# Altium schematic symbol library CTC.SCHLIB: 16 symbols
Pins are listed as number, name and electrical type; pins without a type are passive.

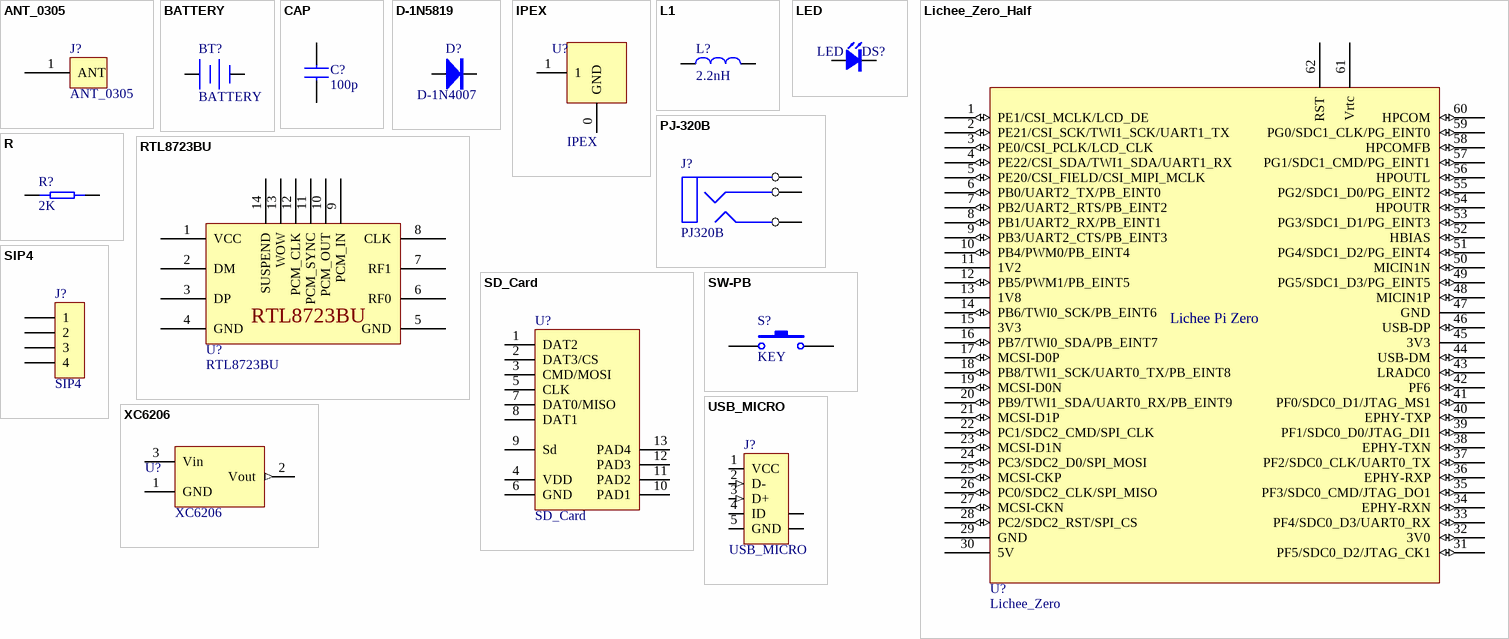
[diagram p0: symbols ANT_0305 to XC6206]

## ANT_0305
designator J?
footprint ANT_0305
pins: 1 ANT

## BATTERY
designator BT?
Multicell Battery; Published: 24-Mar-1999; LatestRevisionDate: 17-Jul-2002; LatestRevisionNote: Re-released for DXP Platform.; PackageReference: BAT-2; Publisher: Altium Limited
footprint BAT-2 (Multicell Battery; 2 Leads)
footprint MS621FE
footprint SIP2-2.54
pins: 1 +, 2 -

## CAP
designator C?, comment 100p
SMD-CAP
footprint 0603C
footprint 0805C
footprint 1206C
footprint C_CCB
footprint 0402C
pins: 1, 2

## D-1N5819
designator D?, comment D-1N4007
Diode
footprint DO-41
footprint DO-35
footprint DO-214
footprint SOD-323
pins: A 1, K 2

## IPEX
designator U?
footprint IPEX
footprint SLDA52
pins: 0 GND, 1

## L1
designator L?, comment 2.2nH
电感
footprint SLF10145
footprint SLF12565
footprint CD32
footprint CD43
footprint NR3015
footprint 0805R
footprint 0603R
pins: 1, 2

## LED
designator DS?
footprint 0805D
footprint LED-5
footprint 0603D
footprint LED0603_R
pins: A 1, K 2

## Lichee_Zero_Half
designator U?, comment Lichee_Zero
footprint Lichee_Zero_Half
pins: 1 PE1/CSI_MCLK/LCD_DE (io), 2 PE21/CSI_SCK/TWI1_SCK/UART1_TX (io), 3 PE0/CSI_PCLK/LCD_CLK (io), 4 PE22/CSI_SDA/TWI1_SDA/UART1_RX (io), 5 PE20/CSI_FIELD/CSI_MIPI_MCLK (io), 6 PB0/UART2_TX/PB_EINT0 (io), 7 PB2/UART2_RTS/PB_EINT2 (io), 8 PB1/UART2_RX/PB_EINT1 (io), 9 PB3/UART2_CTS/PB_EINT3 (io), 10 PB4/PWM0/PB_EINT4 (io), 11 1V2 (power), 12 PB5/PWM1/PB_EINT5 (io), 13 1V8 (power), 14 PB6/TWI0_SCK/PB_EINT6 (io), 15 3V3 (power), 16 PB7/TWI0_SDA/PB_EINT7 (io), 17 MCSI-D0P (io), 18 PB8/TWI1_SCK/UART0_TX/PB_EINT8 (io), 19 MCSI-D0N (io), 20 PB9/TWI1_SDA/UART0_RX/PB_EINT9 (io), 21 MCSI-D1P (io), 22 PC1/SDC2_CMD/SPI_CLK (io), 23 MCSI-D1N (io), 24 PC3/SDC2_D0/SPI_MOSI (io), 25 MCSI-CKP (io), 26 PC0/SDC2_CLK/SPI_MISO (io), 27 MCSI-CKN (io), 28 PC2/SDC2_RST/SPI_CS (io), 29 GND (power), 30 5V (power), 31 PF5/SDC0_D2/JTAG_CK1 (io), 32 3V0 (io), 33 PF4/SDC0_D3/UART0_RX (io), 34 EPHY-RXN (io), 35 PF3/SDC0_CMD/JTAG_DO1 (io), 36 EPHY-RXP (io), 37 PF2/SDC0_CLK/UART0_TX (io), 38 EPHY-TXN (io), 39 PF1/SDC0_D0/JTAG_DI1 (io), 40 EPHY-TXP (io), 41 PF0/SDC0_D1/JTAG_MS1 (io), 42 PF6 (io), 43 LRADC0 (io), 44 USB-DM (io), 45 3V3 (power), 46 USB-DP (io), 47 GND (power), 48 MICIN1P (io), 49 PG5/SDC1_D3/PG_EINT5 (io), 50 MICIN1N (io), 51 PG4/SDC1_D2/PG_EINT4 (io), 52 HBIAS (io), 53 PG3/SDC1_D1/PG_EINT3 (io), 54 HPOUTR (io), 55 PG2/SDC1_D0/PG_EINT2 (io), 56 HPOUTL (io), 57 PG1/SDC1_CMD/PG_EINT1 (io), 58 HPCOMFB (io), 59 PG0/SDC1_CLK/PG_EINT0 (io), 60 HPCOM (io), 61 Vrtc, 62 RST
text: Lichee Pi Zero

## PJ-320B
designator J?, comment PJ320B
footprint PJ-320B
pins: 2, 3, 4

## R
designator R?, comment 2K
footprint 0805R
footprint R-AXIAL0.3
footprint R-AXIAL0.4
footprint 0402R
pins: 1, 2

## RTL8723BU
designator U?
footprint RTL8723BU
pins: 1 VCC, 2 DM, 3 DP, 4 GND, 5 GND, 6 RF0, 7 RF1, 8 CLK, 9 PCM_IN, 10 PCM_OUT, 11 PCM_SYNC, 12 PCM_CLK, 13 WOW, 14 SUSPEND

## SD_Card
designator U?
footprint TF_self-eject
pins: 1 DAT2, 2 DAT3/CS, 3 CMD/MOSI, 4 VDD, 5 CLK, 6 GND, 7 DAT0/MISO, 8 DAT1, 9 Sd, 10 PAD1, 11 PAD2, 12 PAD3, 13 PAD4

## SIP4
designator J?
jointbar
footprint SIP4-2.0
footprint SIP4-2.54
footprint SIP_4
pins: 1, 2, 3, 4

## SW-PB
designator S?, comment KEY
Switch; Published: 24-Mar-1999; LatestRevisionDate: 17-Jul-2002; LatestRevisionNote: Re-released for DXP Platform.; PackageReference: SPST-2; Publisher: Altium Limited
footprint SPST-2 (Switch; 2 Leads)
footprint key2_3*4
footprint KEY_6X6X5
footprint key4_3x4
footprint KEY_6x6_h95
pins: 1, 2

## USB_MICRO
designator J?
footprint USB_MICRO
pins: 1 VCC (power) "Power", 2 D- (in) "-DATA", 3 D+ (in) "+DATA", 4 ID (power) "Ground", 5 GND (power) "Ground", 6 SHLD "Shield", 7 SHLD "Shield"

## XC6206
designator U?
3.3V
footprint TO-92
footprint SOT-23
pins: 1 GND (power), 2 Vout (out), 3 Vin (power)